# EAGLE library part CD74ACT164M (library elecanisms)
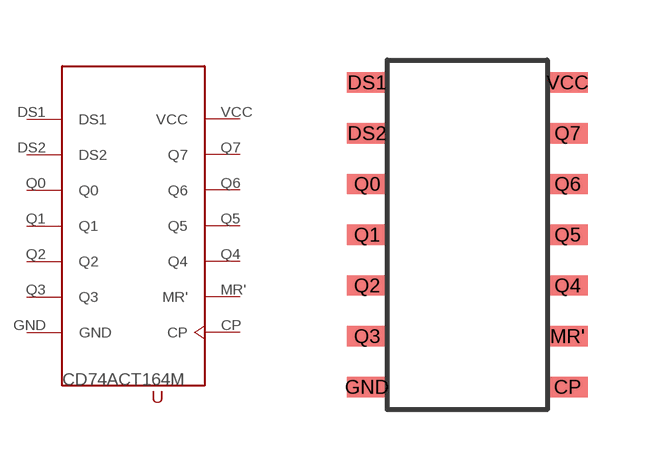
[diagram p1: symbol with the pads of CD74ACT164M; footprint CD74ACT164M]

Designator prefix -

## CD74ACT164M  [CD74ACT164M]
CP  CP
DS1  DS1
DS2  DS2
GND  GND
MR'  MR'
Q0  Q0
Q1  Q1
Q2  Q2
Q3  Q3
Q4  Q4
Q5  Q5
Q6  Q6
Q7  Q7
VCC  VCC

## Footprint CD74ACT164M (pad centres in mm)
smd 1.016 x 0.508: CP 4.508,0.565; DS1 -0.508,8.185; DS2 -0.508,6.915; GND -0.508,0.565; MR' 4.508,1.835; Q0 -0.508,5.645; Q1 -0.508,4.375; Q2 -0.508,3.105; Q3 -0.508,1.835; Q4 4.508,3.105; Q5 4.508,4.375; Q6 4.508,5.645; Q7 4.508,6.915; VCC 4.508,8.185